# EAGLE library part NOSTROMO-N52-KEYS (library hal-config)
Nostromo N52 Controller Keypad, joypad, button inputs Use loadusr -W hal_input -K +Nostromo:0
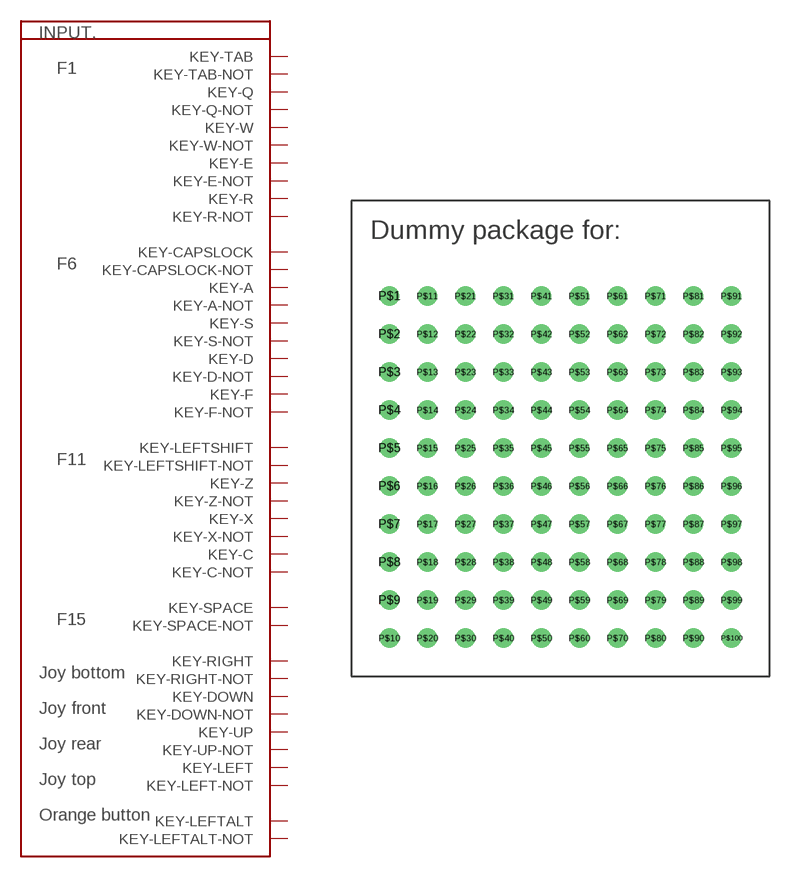
[diagram p22: symbol with the pads of DUMMY; footprint DUMMY]

Designator prefix INPUT.

## NOSTROMO-N52-KEYS  [DUMMY]
P$2  KEY-A
P$3  KEY-A-NOT
P$4  KEY-C
P$5  KEY-C-NOT
P$6  KEY-CAPSLOCK
P$7  KEY-CAPSLOCK-NOT
P$8  KEY-D
P$9  KEY-D-NOT
P$10  KEY-DOWN
P$11  KEY-DOWN-NOT
P$12  KEY-E
P$13  KEY-E-NOT
P$14  KEY-F
P$15  KEY-F-NOT
P$16  KEY-LEFT
P$17  KEY-LEFT-NOT
P$18  KEY-LEFTALT
P$19  KEY-LEFTALT-NOT
P$20  KEY-LEFTSHIFT
P$21  KEY-LEFTSHIFT-NOT
P$22  KEY-Q
P$23  KEY-Q-NOT
P$24  KEY-R
P$25  KEY-R-NOT
P$26  KEY-RIGHT
P$27  KEY-RIGHT-NOT
P$28  KEY-S
P$29  KEY-S-NOT
P$30  KEY-SPACE
P$31  KEY-SPACE-NOT
P$32  KEY-TAB
P$33  KEY-TAB-NOT
P$34  KEY-UP
P$35  KEY-UP-NOT
P$36  KEY-W
P$37  KEY-W-NOT
P$38  KEY-X
P$39  KEY-X-NOT
P$40  KEY-Z
P$41  KEY-Z-NOT

## Footprint DUMMY (pad centres in mm)
drill 0.8: P$1 0,-1.27; P$2 0,-3.81; P$3 0,-6.35; P$4 0,-8.89; P$5 0,-11.43; P$6 0,-13.97; P$7 0,-16.51; P$8 0,-19.05; P$9 0,-21.59; P$10 0,-24.13; P$11 2.54,-1.27; P$12 2.54,-3.81; P$13 2.54,-6.35; P$14 2.54,-8.89; P$15 2.54,-11.43; P$16 2.54,-13.97; P$17 2.54,-16.51; P$18 2.54,-19.05; P$19 2.54,-21.59; P$20 2.54,-24.13; P$21 5.08,-1.27; P$22 5.08,-3.81; P$23 5.08,-6.35; P$24 5.08,-8.89; P$25 5.08,-11.43; P$26 5.08,-13.97; P$27 5.08,-16.51; P$28 5.08,-19.05; P$29 5.08,-21.59; P$30 5.08,-24.13; P$31 7.62,-1.27; P$32 7.62,-3.81; P$33 7.62,-6.35; P$34 7.62,-8.89; P$35 7.62,-11.43; P$36 7.62,-13.97; P$37 7.62,-16.51; P$38 7.62,-19.05; P$39 7.62,-21.59; P$40 7.62,-24.13; P$41 10.16,-1.27; P$42 10.16,-3.81; P$43 10.16,-6.35; P$44 10.16,-8.89; P$45 10.16,-11.43; P$46 10.16,-13.97; P$47 10.16,-16.51; P$48 10.16,-19.05; P$49 10.16,-21.59; P$50 10.16,-24.13; P$51 12.7,-1.27; P$52 12.7,-3.81; P$53 12.7,-6.35; P$54 12.7,-8.89; P$55 12.7,-11.43; P$56 12.7,-13.97; P$57 12.7,-16.51; P$58 12.7,-19.05; P$59 12.7,-21.59; P$60 12.7,-24.13; P$61 15.24,-1.27; P$62 15.24,-3.81; P$63 15.24,-6.35; P$64 15.24,-8.89; P$65 15.24,-11.43; P$66 15.24,-13.97; P$67 15.24,-16.51; P$68 15.24,-19.05; P$69 15.24,-21.59; P$70 15.24,-24.13; P$71 17.78,-1.27; P$72 17.78,-3.81; P$73 17.78,-6.35; P$74 17.78,-8.89; P$75 17.78,-11.43; P$76 17.78,-13.97; P$77 17.78,-16.51; P$78 17.78,-19.05; P$79 17.78,-21.59; P$80 17.78,-24.13; P$81 20.32,-1.27; P$82 20.32,-3.81; P$83 20.32,-6.35; P$84 20.32,-8.89; P$85 20.32,-11.43; P$86 20.32,-13.97; P$87 20.32,-16.51; P$88 20.32,-19.05; P$89 20.32,-21.59; P$90 20.32,-24.13; P$91 22.86,-1.27; P$92 22.86,-3.81; P$93 22.86,-6.35; P$94 22.86,-8.89; P$95 22.86,-11.43; P$96 22.86,-13.97; P$97 22.86,-16.51; P$98 22.86,-19.05; P$99 22.86,-21.59; P$100 22.86,-24.13